# Altium integrated library pedals-misc.IntLib: 1 symbol
Pins are listed as number, name and electrical type; pins without a type are passive.

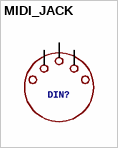
[diagram p0: symbol MIDI_JACK]

## MIDI_JACK
designator DIN?
footprint HDR3
pins: P$1 4, P$2 2, P$3 5